# Altium integrated library LFE5U-25F-8MG285C.IntLib: 1 symbol
Pins are listed as number, name and electrical type; pins without a type are passive.

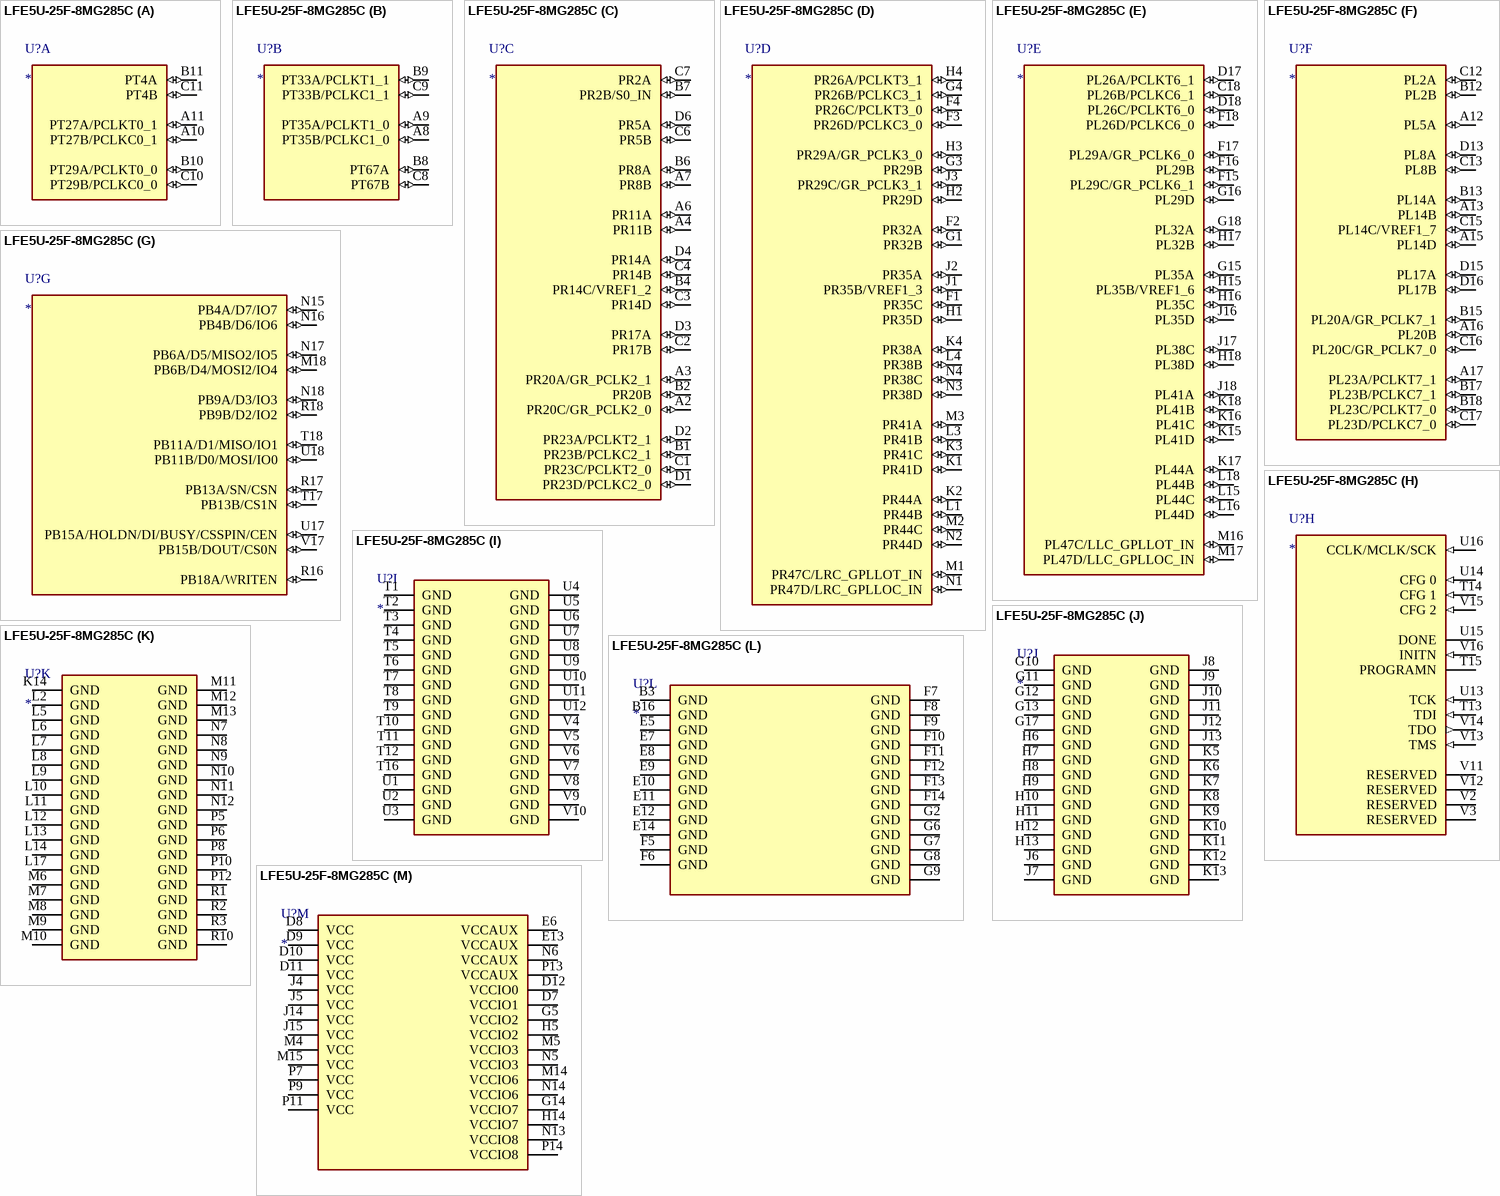
[diagram p0: symbol LFE5U-25F-8MG285C]

## LFE5U-25F-8MG285C
designator U?
FPGA LatticeECP5 Family 24000 Cells 40nm Technology 1.1V 285-Pin CSFBGA
footprint FP-cBGA-LFE5U
part A pins: A10 PT27B/PCLKC0_1 (io), A11 PT27A/PCLKT0_1 (io), B10 PT29A/PCLKT0_0 (io), B11 PT4A (io), C10 PT29B/PCLKC0_0 (io), C11 PT4B (io)
part B pins: A8 PT35B/PCLKC1_0 (io), A9 PT35A/PCLKT1_0 (io), B8 PT67A (io), B9 PT33A/PCLKT1_1 (io), C8 PT67B (io), C9 PT33B/PCLKC1_1 (io)
part C pins: A2 PR20C/GR_PCLK2_0 (io), A3 PR20A/GR_PCLK2_1 (io), A4 PR11B (io), A6 PR11A (io), A7 PR8B (io), B1 PR23B/PCLKC2_1 (io), B2 PR20B (io), B4 PR14C/VREF1_2 (io), B6 PR8A (io), B7 PR2B/S0_IN (io), C1 PR23C/PCLKT2_0 (io), C2 PR17B (io), C3 PR14D (io), C4 PR14B (io), C6 PR5B (io), C7 PR2A (io), D1 PR23D/PCLKC2_0 (io), D2 PR23A/PCLKT2_1 (io), D3 PR17A (io), D4 PR14A (io), D6 PR5A (io)
part D pins: F1 PR35C (io), F2 PR32A (io), F3 PR26D/PCLKC3_0 (io), F4 PR26C/PCLKT3_0 (io), G1 PR32B (io), G3 PR29B (io), G4 PR26B/PCLKC3_1 (io), H1 PR35D (io), H2 PR29D (io), H3 PR29A/GR_PCLK3_0 (io), H4 PR26A/PCLKT3_1 (io), J1 PR35B/VREF1_3 (io), J2 PR35A (io), J3 PR29C/GR_PCLK3_1 (io), K1 PR41D (io), K2 PR44A (io), K3 PR41C (io), K4 PR38A (io), L1 PR44B (io), L3 PR41B (io), L4 PR38B (io), M1 PR47C/LRC_GPLLOT_IN (io), M2 PR44C (io), M3 PR41A (io), N1 PR47D/LRC_GPLLOC_IN (io), N2 PR44D (io), N3 PR38D (io), N4 PR38C (io)
part E pins: C18 PL26B/PCLKC6_1 (io), D17 PL26A/PCLKT6_1 (io), D18 PL26C/PCLKT6_0 (io), F15 PL29C/GR_PCLK6_1 (io), F16 PL29B (io), F17 PL29A/GR_PCLK6_0 (io), F18 PL26D/PCLKC6_0 (io), G15 PL35A (io), G16 PL29D (io), G18 PL32A (io), H15 PL35B/VREF1_6 (io), H16 PL35C (io), H17 PL32B (io), H18 PL38D (io), J16 PL35D (io), J17 PL38C (io), J18 PL41A (io), K15 PL41D (io), K16 PL41C (io), K17 PL44A (io), K18 PL41B (io), L15 PL44C (io), L16 PL44D (io), L18 PL44B (io), M16 PL47C/LLC_GPLLOT_IN (io), M17 PL47D/LLC_GPLLOC_IN (io)
part F pins: A12 PL5A (io), A13 PL14B (io), A15 PL14D (io), A16 PL20B (io), A17 PL23A/PCLKT7_1 (io), B12 PL2B (io), B13 PL14A (io), B15 PL20A/GR_PCLK7_1 (io), B17 PL23B/PCLKC7_1 (io), B18 PL23C/PCLKT7_0 (io), C12 PL2A (io), C13 PL8B (io), C15 PL14C/VREF1_7 (io), C16 PL20C/GR_PCLK7_0 (io), C17 PL23D/PCLKC7_0 (io), D13 PL8A (io), D15 PL17A (io), D16 PL17B (io)
part G pins: M18 PB6B/D4/MOSI2/IO4 (io), N15 PB4A/D7/IO7 (io), N16 PB4B/D6/IO6 (io), N17 PB6A/D5/MISO2/IO5 (io), N18 PB9A/D3/IO3 (io), R16 PB18A/WRITEN (io), R17 PB13A/SN/CSN (io), R18 PB9B/D2/IO2 (io), T17 PB13B/CS1N (io), T18 PB11A/D1/MISO/IO1 (io), U17 PB15A/HOLDN/DI/BUSY/CSSPIN/CEN (io), U18 PB11B/D0/MOSI/IO0 (io), V17 PB15B/DOUT/CS0N (io)
part H pins: T13 TDI (in), T14 CFG 1 (in), T15 PROGRAMN, U13 TCK (in), U14 CFG 0 (in), U15 DONE, U16 CCLK/MCLK/SCK (in), V2 RESERVED, V3 RESERVED, V11 RESERVED, V12 RESERVED, V13 TMS (in), V14 TDO (out), V15 CFG 2 (in), V16 INITN (in)
part I pins: T1 GND (power), T2 GND (power), T3 GND (power), T4 GND (power), T5 GND (power), T6 GND (power), T7 GND (power), T8 GND (power), T9 GND (power), T10 GND (power), T11 GND (power), T12 GND (power), T16 GND (power), U1 GND (power), U2 GND (power), U3 GND (power), U4 GND (power), U5 GND (power), U6 GND (power), U7 GND (power), U8 GND (power), U9 GND (power), U10 GND (power), U11 GND (power), U12 GND (power), V4 GND (power), V5 GND (power), V6 GND (power), V7 GND (power), V8 GND (power), V9 GND (power), V10 GND (power)
part J pins: G10 GND (power), G11 GND (power), G12 GND (power), G13 GND (power), G17 GND (power), H6 GND (power), H7 GND (power), H8 GND (power), H9 GND (power), H10 GND (power), H11 GND (power), H12 GND (power), H13 GND (power), J6 GND (power), J7 GND (power), J8 GND (power), J9 GND (power), J10 GND (power), J11 GND (power), J12 GND (power), J13 GND (power), K5 GND (power), K6 GND (power), K7 GND (power), K8 GND (power), K9 GND (power), K10 GND (power), K11 GND (power), K12 GND (power), K13 GND (power)
part K pins: K14 GND (power), L2 GND (power), L5 GND (power), L6 GND (power), L7 GND (power), L8 GND (power), L9 GND (power), L10 GND (power), L11 GND (power), L12 GND (power), L13 GND (power), L14 GND (power), L17 GND (power), M6 GND (power), M7 GND (power), M8 GND (power), M9 GND (power), M10 GND (power), M11 GND (power), M12 GND (power), M13 GND (power), N7 GND (power), N8 GND (power), N9 GND (power), N10 GND (power), N11 GND (power), N12 GND (power), P5 GND (power), P6 GND (power), P8 GND (power), P10 GND (power), P12 GND (power), R1 GND (power), R2 GND (power), R3 GND (power), R10 GND (power)
part L pins: B3 GND (power), B16 GND (power), E5 GND (power), E7 GND (power), E8 GND (power), E9 GND (power), E10 GND (power), E11 GND (power), E12 GND (power), E14 GND (power), F5 GND (power), F6 GND (power), F7 GND (power), F8 GND (power), F9 GND (power), F10 GND (power), F11 GND (power), F12 GND (power), F13 GND (power), F14 GND (power), G2 GND (power), G6 GND (power), G7 GND (power), G8 GND (power), G9 GND (power)
part M pins: D7 VCCIO1 (power), D8 VCC (power), D9 VCC (power), D10 VCC (power), D11 VCC (power), D12 VCCIO0 (power), E6 VCCAUX (power), E13 VCCAUX (power), G5 VCCIO2 (power), G14 VCCIO7 (power), H5 VCCIO2 (power), H14 VCCIO7 (power), J4 VCC (power), J5 VCC (power), J14 VCC (power), J15 VCC (power), M4 VCC (power), M5 VCCIO3 (power), M14 VCCIO6 (power), M15 VCC (power), N5 VCCIO3 (power), N6 VCCAUX (power), N13 VCCIO8 (power), N14 VCCIO6 (power), P7 VCC (power), P9 VCC (power), P11 VCC (power), P13 VCCAUX (power), P14 VCCIO8 (power)